# Altium footprint library AuxPDU.PcbLib: 21 footprints (part 1 of 2)
Each footprint in its own frame and in the unit in brackets; x right, y up, seen from the top. Pads: shape width x height; smd on the part's side, far side on the other; paste and mask are expansions set on the pad; w line width, h text height; cw(c..) or ccw(c..) is an arc to the next point about the centre after c.
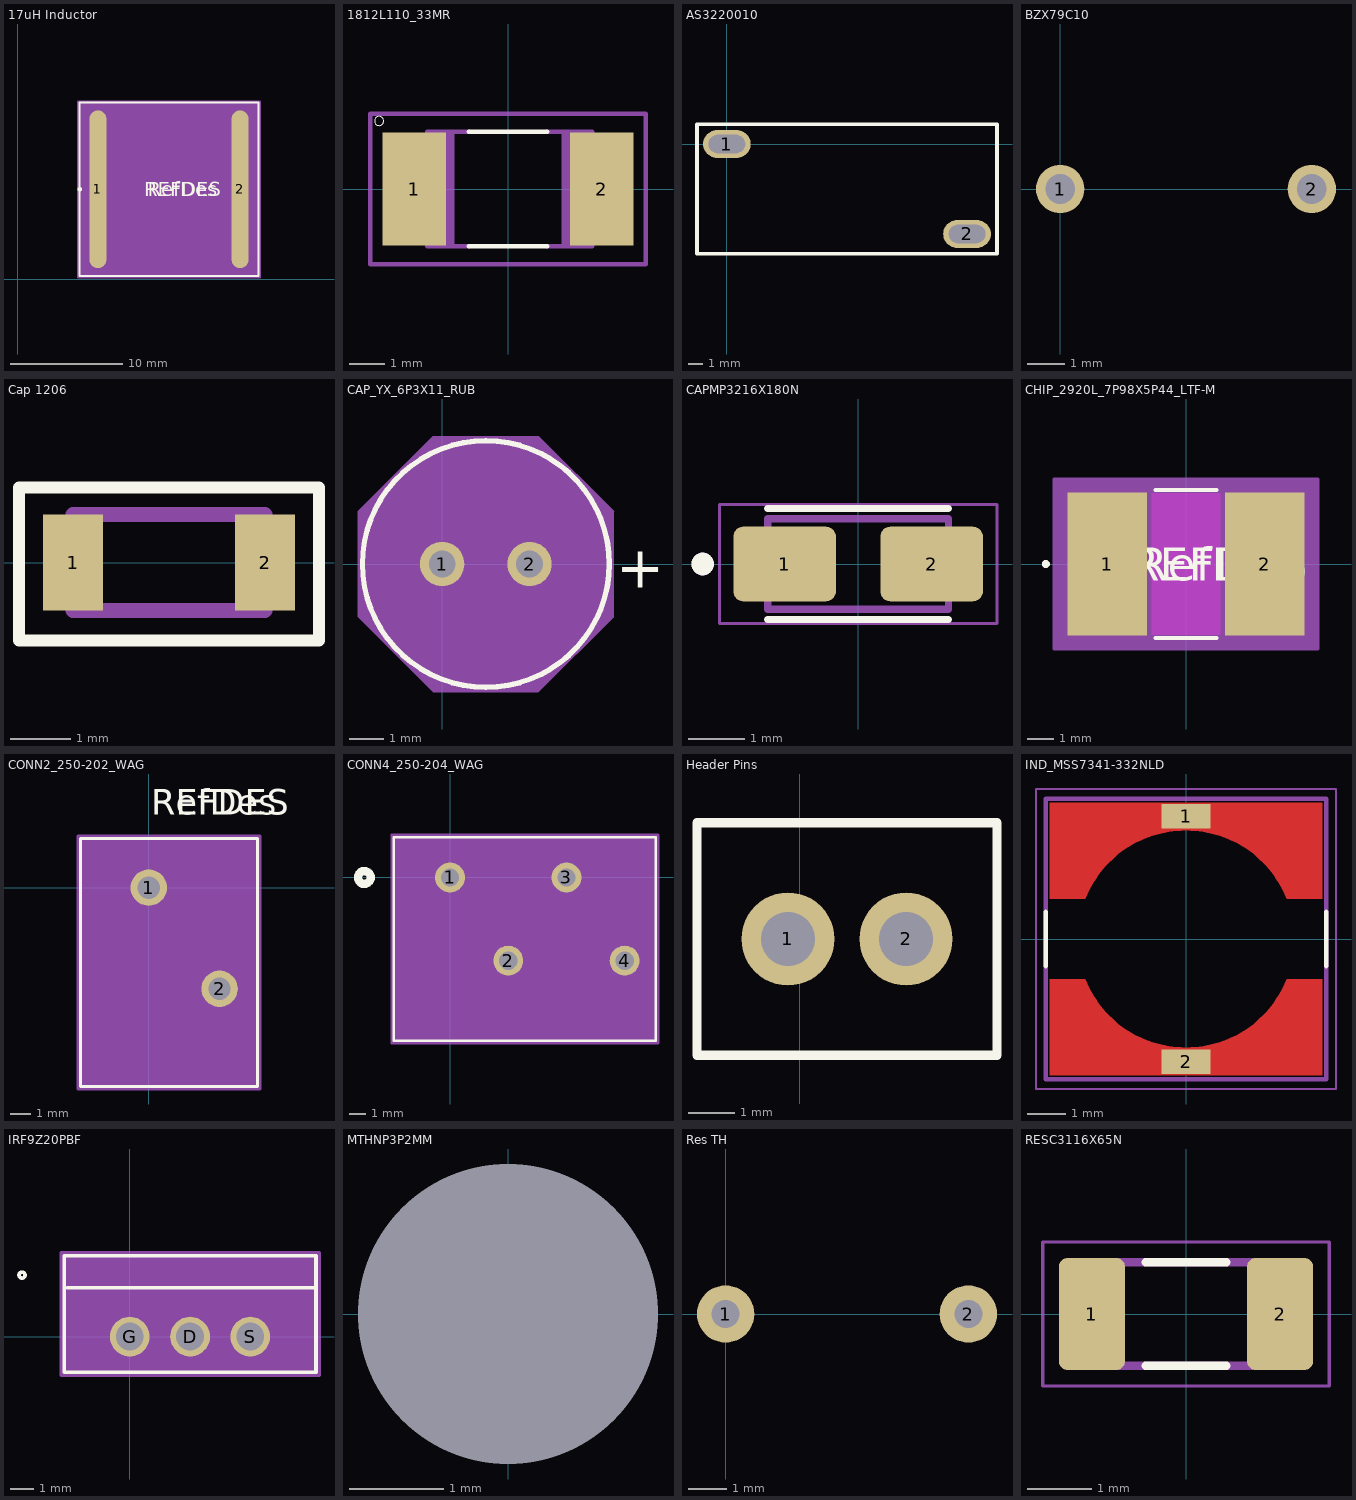
[diagram p0: the footprints below, top view; thin cyan lines are the x and y axes]

## 17uH Inductor [mil]
pads (2):
  oval 60x555 smd paste+0 mask+0: 1(282.14,315.71) 2(782.14,315.71)
Top Overlay:
  circle w6: c218.14,315.71 r5
  lines w6: 217.14,10.71 217.14,620.71 847.14,620.71 847.14,10.71 217.14,10.71
  text "REFDES" at 444.64,290.71 h50
  text "RefDes" at 457.14,290.71 h50
Top 3D Body:
  circle w0: c312.14,315.71 r3
  lines w0: 520.14,615.71 ccw(c532.14,615.71) 544.14,615.71
  lines w1: 222.14,15.71 222.14,615.71 842.14,615.71 842.14,15.71 222.14,15.71
  text "RefDes2" at 444.64,290.71 h50
Top Courtyard:
  region: 212.14,28.21 212.14,603.21 212.14,625.71 852.14,625.71 852.14,603.21 852.14,28.21 852.14,5.71 212.14,5.71
  lines w6: 212.14,5.71 852.14,5.71 852.14,28.21 852.14,603.21 852.14,625.71 212.14,625.71 212.14,603.21 212.14,28.21 212.14,5.71
3D body "IND_LCI-44_PUL.step": height 380.12, standoff 0, extent 34.62,15.71 1029.66,615.71

## 1812L110_33MR [mm] "PTC Reset Fuse"
pads (2):
  rect 1.78x3.15 smd: 1(-2.615,0) 2(2.615,0)
Top Overlay:
  circle w0: c-3.6,1.9 r0.127
  lines w0.127: -1.1,-1.6 1.1,-1.6 ; -1.1,1.6 1.1,1.6
Top 3D Body:
  region: -1.5,-1.6 -2.25,-1.6 -2.25,-0.5 -2.224,-0.499 -2.198,-0.497 -2.172,-0.494 -2.146,-0.489 -2.121,-0.483 -2.095,-0.476 -2.071,-0.467 -2.047,-0.457 -2.023,-0.446 -2,-0.433 -1.978,-0.419 -1.956,-0.405 -1.935,-0.389 -1.915,-0.372 -1.896,-0.354 -1.878,-0.335 -1.861,-0.315 -1.845,-0.294 -1.831,-0.272 -1.817,-0.25 -1.804,-0.227 -1.793,-0.203 -1.783,-0.179 -1.774,-0.155 -1.767,-0.129 -1.761,-0.104 -1.756,-0.078 -1.753,-0.052 -1.751,-0.026 -1.75,0 -1.751,0.026 -1.753,0.052 -1.756,0.078 -1.761,0.104 -1.767,0.129 -1.774,0.155 -1.783,0.179 -1.793,0.203 -1.804,0.227 -1.817,0.25 -1.831,0.272 -1.845,0.294 -1.861,0.315 -1.878,0.335 -1.896,0.354 -1.915,0.372 -1.935,0.389 -1.956,0.405 -1.978,0.419 -2,0.433 -2.023,0.446 -2.047,0.457 -2.071,0.467 -2.095,0.476 -2.121,0.483 -2.146,0.489 -2.172,0.494 -2.198,0.497 -2.224,0.499 -2.25,0.5 -2.25,1.6 -1.5,1.6
  region: 2.35,0.5 2.324,0.499 2.298,0.497 2.272,0.494 2.246,0.489 2.221,0.483 2.195,0.476 2.171,0.467 2.147,0.457 2.123,0.446 2.1,0.433 2.078,0.419 2.056,0.405 2.035,0.389 2.015,0.372 1.996,0.354 1.978,0.335 1.961,0.315 1.945,0.294 1.931,0.272 1.917,0.25 1.904,0.227 1.893,0.203 1.883,0.179 1.874,0.155 1.867,0.129 1.861,0.104 1.856,0.078 1.853,0.052 1.851,0.026 1.85,0 1.851,-0.026 1.853,-0.052 1.856,-0.078 1.861,-0.104 1.867,-0.129 1.874,-0.155 1.883,-0.179 1.893,-0.203 1.904,-0.227 1.917,-0.25 1.931,-0.272 1.945,-0.294 1.961,-0.315 1.978,-0.335 1.996,-0.354 2.015,-0.372 2.035,-0.389 2.056,-0.405 2.078,-0.419 2.1,-0.433 2.123,-0.446 2.147,-0.457 2.171,-0.467 2.195,-0.476 2.221,-0.483 2.246,-0.489 2.272,-0.494 2.298,-0.497 2.324,-0.499 2.35,-0.5 2.35,-1.6 1.5,-1.6 1.5,1.6 2.35,1.6
  lines w0.127: -1.1,-1.6 -2.25,-1.6 -2.25,-0.5 ccw(c-2.25,0) -2.25,0.5 -2.25,1.6 -1.1,1.6 ; 1.1,-1.6 2.35,-1.6 2.35,-0.5 cw(c2.35,0) 2.35,0.5 2.35,1.6 1.1,1.6
Top Courtyard:
  lines w0.127: -3.85,-2.1 3.85,-2.1 3.85,2.1 -3.85,2.1 -3.85,-2.1

## AS3220010 [mm] "Inrush Current Limiter 20 Ohms ±25% 10 A 1.142\" (29.00mm)"
pads (2):
  oval 3.4x2 hole 1.3 slot 2.6 at 0 deg: 1(0,0) 2(17.1,-6.4)
Top Overlay:
  lines w0.254: -2.125,-7.8 -2.125,1.4 19.232,1.4 19.232,-7.8 -2.1,-7.8

## BZX79C10 [mm] "2 Hole, Lead Diameter 0.46-0.533 mm"
pads (2):
  round 1.3 hole 0.8: 1(0,0) 2(6.75,0)

## Cap 1206 [mm] "Generic SMD capacitor with 1206 package (3216 metric)"
pads (2):
  rect 1x1.6 smd: 1(2.007,0) 2(5.207,0)
Top Overlay:
  lines w0.2: 1.107,-1.3 2.357,-1.3 4.857,-1.3 6.107,-1.3 6.107,1.25 2.357,1.25 1.107,1.25 1.107,-1.3
Mechanical 1:
  lines w0.254: 2.007,-0.8 5.207,-0.8 5.207,0.8 2.007,0.8 2.007,-0.8

## CAP_YX_6P3X11_RUB [mil]
pads (2):
  round 50 / inner round 60 / far side round 50 hole 30 paste-99999 mask+0: 1(0,0) 2(98.43,0)
Top Overlay:
  circle w6: c49.21,0 r139
  text "+" at 195.87,-27 h47.24
Top 3D Body:
  circle w0: c49.21,0 r134
Top Courtyard:
  region: -94.79,59.29 -10.08,144 108.51,144 193.21,59.29 193.21,-59.29 108.51,-144 -10.08,-144 -94.79,-59.29
  lines w1: -94.79,-59.29 -10.08,-144 108.51,-144 193.21,-59.29 193.21,59.29 108.51,144 -10.08,144 -94.79,59.29 -94.79,-59.29
3D body "CAP_YX_6P3X11_RUB.step": height 492.6, standoff -160, extent -84.8,-133.88 184.32,133.88

## CAPMP3216X180N [mm]
height 1.8
pads (2):
  rrect25% 1.81x1.32 smd: 1(-1.3,0) 2(1.3,0)
Top Overlay:
  circle w0.2: c-2.75,0 r0.1
  lines w0.127: -1.6,-0.98 1.6,-0.98 ; -1.6,0.98 1.6,0.98
Top 3D Body:
  circle w0.2: c-2.75,0 r0.1
  lines w0.127: -1.6,-0.8 -1.6,0.8 1.6,0.8 1.6,-0.8 -1.6,-0.8
Top Courtyard:
  lines w0.05: -2.455,-1.05 2.455,-1.05 2.455,1.05 -2.455,1.05 -2.455,-1.05
3D body "step_temp.STEP": height 1.8, standoff 0, extent -1.6,-0.8 1.6,0.8

## CHIP_2920L_7P98X5P44_LTF-M [mil]
pads (2):
  rect 120x216 smd paste+0 mask+0: 1(-119,0) 2(119,0)
Top Layer keep-out:
  region: -52.17,-105 -52.17,105 52.17,105 52.17,-105
Top Overlay:
  circle w6: c-212,0 r3
  lines w6: -46.53,-112 46.53,-112 ; -46.53,112 46.53,112
  text "RefDes" at -75,-25 h50
  text "REFDES" at -87.5,-25 h50
Keep-Out Layer:
  region: -52.17,-107 -52.17,107 52.17,107 52.17,-107
Top 3D Body:
  circle w0: c-114,0 r3
  lines w1: -157,-107 -157,107 ; -157,-107 -59,-107 -59,107 -157,107 ; -157,-107 157,-107 ; -157,-107 -157,107 ; -157,107 157,107 ; 157,-107 59,-107 59,107 157,107 ; 157,-107 157,107 ; 157,-107 157,107
  text "RefDes2" at -87.5,-25 h50
Top Courtyard:
  region: 199,-128 -199,-128 -199,128 199,128
  lines w6: -199,-128 -199,128 199,128 199,-128 -199,-128
3D body "CHIP_2920L_7P98X5P44_LTF.step": height 49.02, standoff 0, extent -157.01,-107.01 157.01,107.01

## CONN2_250-202_WAG [mm]
pads (2):
  round 1.8 / inner round 1.524 / far side round 1.8 hole 1.1 paste-2539.97 mask+0: 1(0,0) 2(3.5,-5)
Top Overlay:
  lines w0.152: -3.377,-9.827 -3.377,2.427 5.377,2.427 5.377,-9.827 -3.377,-9.827
  text "RefDes" at 0.127,3.607 h1.27
  text "REFDES" at 0.127,3.607 h1.27
Top 3D Body:
  circle w0.508: c0,1.905 r0.381
  lines w0.025: -3.25,-9.7 -3.25,2.3 5.25,2.3 5.25,-9.7 -3.25,-9.7
Top Courtyard:
  region: 5.504,2.554 -3.504,2.554 -3.504,-9.954 5.504,-9.954
  lines w0.152: -3.504,-9.954 5.504,-9.954 5.504,2.554 -3.504,2.554 -3.504,-9.954
3D body "250-202.stp": height 12.81, standoff -3.89, extent -3.259,-9.689 5.241,2.311

## CONN4_250-204_WAG [mm]
pads (4):
  round 1.8 hole 1.1 paste-2539.97 mask+0: 1(0,0) 2(3.5,-5) 3(7,0) 4(10.5,-5)
Top Overlay:
  circle w0.508: c-5.155,0 r0.381
  lines w0.152: -3.377,-9.827 -3.377,2.427 12.377,2.427 12.377,-9.827 -3.377,-9.827
  text ".Designator" at 1.008,-3.135 h1.27
Bottom Overlay:
  circle w0.508: c-5.155,0 r0.381
Top 3D Body:
  circle w0.508: c0,1.905 r0.381
  lines w0.025: -3.25,-9.7 -3.25,2.3 12.25,2.3 12.25,-9.7 -3.25,-9.7
  text ".Designator" at 1.008,-3.135 h1.27
Top Courtyard:
  region: 12.504,2.554 -3.504,2.554 -3.504,-9.954 12.504,-9.954
  lines w0.152: -3.504,-9.954 12.504,-9.954 12.504,2.554 -3.504,2.554 -3.504,-9.954
3D body "250-204.stp": height 12.81, standoff -3.89, extent -3.257,-9.678 12.243,2.322

## Header Pins [mm]
pads (2):
  round 2 hole 1.16: 1(-0.254,3.81) 2(2.286,3.81)
Top Overlay:
  lines w0.2: -2.209,1.31 4.241,1.31 4.241,3.81 4.241,6.31 -2.209,6.31 -2.209,1.31

## IND_MSS7341-332NLD [mm]
height 4.1
pads (2):
  rect 1.27x0.635 smd paste-2 mask+0: 1(0,3.2) 2(0,-3.2)
Top Layer:
  region: 3.55,-3.55 -3.55,-3.55 -3.55,-1.05 -2.62,-1.05 -2.57,-1.169 -2.522,-1.269 -2.47,-1.368 -2.415,-1.464 -2.356,-1.558 -2.293,-1.65 -2.226,-1.739 -2.156,-1.826 -2.083,-1.909 -2.006,-1.99 -1.926,-2.067 -1.844,-2.142 -1.758,-2.213 -1.67,-2.28 -1.579,-2.344 -1.485,-2.405 -1.39,-2.461 -1.292,-2.514 -1.192,-2.563 -1.09,-2.608 -0.987,-2.649 -0.882,-2.685 -0.775,-2.718 -0.668,-2.746 -0.559,-2.77 -0.45,-2.79 -0.339,-2.805 -0.229,-2.816 -0.118,-2.823 0,-2.825 0.118,-2.823 0.229,-2.816 0.339,-2.805 0.45,-2.79 0.559,-2.77 0.668,-2.746 0.775,-2.718 0.882,-2.685 0.987,-2.649 1.09,-2.608 1.192,-2.563 1.292,-2.514 1.39,-2.461 1.485,-2.405 1.579,-2.344 1.67,-2.28 1.758,-2.213 1.844,-2.142 1.926,-2.067 2.006,-1.99 2.083,-1.909 2.156,-1.826 2.226,-1.739 2.293,-1.65 2.356,-1.558 2.415,-1.464 2.47,-1.368 2.522,-1.269 2.57,-1.169 2.62,-1.05 3.55,-1.05
  region: 3.55,1.05 2.62,1.05 2.57,1.169 2.522,1.269 2.47,1.368 2.415,1.464 2.356,1.558 2.293,1.65 2.226,1.739 2.156,1.826 2.083,1.909 2.006,1.99 1.926,2.067 1.844,2.142 1.758,2.213 1.67,2.28 1.579,2.344 1.485,2.405 1.39,2.461 1.292,2.514 1.192,2.563 1.09,2.608 0.987,2.649 0.882,2.685 0.775,2.718 0.668,2.746 0.559,2.77 0.45,2.79 0.339,2.805 0.229,2.816 0.118,2.823 0,2.825 -0.118,2.823 -0.229,2.816 -0.339,2.805 -0.45,2.79 -0.559,2.77 -0.668,2.746 -0.775,2.718 -0.882,2.685 -0.987,2.649 -1.09,2.608 -1.192,2.563 -1.292,2.514 -1.39,2.461 -1.485,2.405 -1.579,2.344 -1.67,2.28 -1.758,2.213 -1.844,2.142 -1.926,2.067 -2.006,1.99 -2.083,1.909 -2.156,1.826 -2.226,1.739 -2.293,1.65 -2.356,1.558 -2.415,1.464 -2.47,1.368 -2.522,1.269 -2.57,1.169 -2.62,1.05 -3.55,1.05 -3.55,3.55 3.55,3.55
Top Overlay:
  lines w0.127: -3.65,-0.7 -3.65,0.7 ; 3.65,-0.7 3.65,0.7
Top Paste:
  region: 3.55,-3.55 -3.55,-3.55 -3.55,-1.05 -2.62,-1.05 -2.57,-1.169 -2.522,-1.269 -2.47,-1.368 -2.415,-1.464 -2.356,-1.558 -2.293,-1.65 -2.226,-1.739 -2.156,-1.826 -2.083,-1.909 -2.006,-1.99 -1.926,-2.067 -1.844,-2.142 -1.758,-2.213 -1.67,-2.28 -1.579,-2.344 -1.485,-2.405 -1.39,-2.461 -1.292,-2.514 -1.192,-2.563 -1.09,-2.608 -0.987,-2.649 -0.882,-2.685 -0.775,-2.718 -0.668,-2.746 -0.559,-2.77 -0.45,-2.79 -0.339,-2.805 -0.229,-2.816 -0.118,-2.823 0,-2.825 0.118,-2.823 0.229,-2.816 0.339,-2.805 0.45,-2.79 0.559,-2.77 0.668,-2.746 0.775,-2.718 0.882,-2.685 0.987,-2.649 1.09,-2.608 1.192,-2.563 1.292,-2.514 1.39,-2.461 1.485,-2.405 1.579,-2.344 1.67,-2.28 1.758,-2.213 1.844,-2.142 1.926,-2.067 2.006,-1.99 2.083,-1.909 2.156,-1.826 2.226,-1.739 2.293,-1.65 2.356,-1.558 2.415,-1.464 2.47,-1.368 2.522,-1.269 2.57,-1.169 2.62,-1.05 3.55,-1.05
  region: 3.55,1.05 2.62,1.05 2.57,1.169 2.522,1.269 2.47,1.368 2.415,1.464 2.356,1.558 2.293,1.65 2.226,1.739 2.156,1.826 2.083,1.909 2.006,1.99 1.926,2.067 1.844,2.142 1.758,2.213 1.67,2.28 1.579,2.344 1.485,2.405 1.39,2.461 1.292,2.514 1.192,2.563 1.09,2.608 0.987,2.649 0.882,2.685 0.775,2.718 0.668,2.746 0.559,2.77 0.45,2.79 0.339,2.805 0.229,2.816 0.118,2.823 0,2.825 -0.118,2.823 -0.229,2.816 -0.339,2.805 -0.45,2.79 -0.559,2.77 -0.668,2.746 -0.775,2.718 -0.882,2.685 -0.987,2.649 -1.09,2.608 -1.192,2.563 -1.292,2.514 -1.39,2.461 -1.485,2.405 -1.579,2.344 -1.67,2.28 -1.758,2.213 -1.844,2.142 -1.926,2.067 -2.006,1.99 -2.083,1.909 -2.156,1.826 -2.226,1.739 -2.293,1.65 -2.356,1.558 -2.415,1.464 -2.47,1.368 -2.522,1.269 -2.57,1.169 -2.62,1.05 -3.55,1.05 -3.55,3.55 3.55,3.55
Top Solder:
  region: 3.65,-3.65 -3.65,-3.65 -3.65,-0.95 -2.52,-0.95 -2.472,-1.069 -2.427,-1.167 -2.379,-1.264 -2.326,-1.359 -2.27,-1.452 -2.211,-1.542 -2.147,-1.63 -2.081,-1.715 -2.011,-1.798 -1.937,-1.878 -1.861,-1.955 -1.782,-2.028 -1.7,-2.099 -1.615,-2.166 -1.527,-2.23 -1.437,-2.29 -1.345,-2.347 -1.251,-2.4 -1.154,-2.45 -1.056,-2.495 -0.956,-2.537 -0.854,-2.574 -0.751,-2.608 -0.647,-2.637 -0.541,-2.662 -0.435,-2.683 -0.328,-2.7 -0.221,-2.713 -0.113,-2.721 0,-2.725 0.113,-2.721 0.221,-2.713 0.328,-2.7 0.435,-2.683 0.541,-2.662 0.647,-2.637 0.751,-2.608 0.854,-2.574 0.956,-2.537 1.056,-2.495 1.154,-2.45 1.251,-2.4 1.345,-2.347 1.437,-2.29 1.527,-2.23 1.615,-2.166 1.7,-2.099 1.782,-2.028 1.861,-1.955 1.937,-1.878 2.011,-1.798 2.081,-1.715 2.147,-1.63 2.211,-1.542 2.27,-1.452 2.326,-1.359 2.379,-1.264 2.427,-1.167 2.472,-1.069 2.52,-0.95 3.65,-0.95
  region: 3.65,0.95 2.52,0.95 2.472,1.069 2.427,1.167 2.379,1.264 2.326,1.359 2.27,1.452 2.211,1.542 2.147,1.63 2.081,1.715 2.011,1.798 1.937,1.878 1.861,1.955 1.782,2.028 1.7,2.099 1.615,2.166 1.527,2.23 1.437,2.29 1.345,2.347 1.251,2.4 1.154,2.45 1.056,2.495 0.956,2.537 0.854,2.574 0.751,2.608 0.647,2.637 0.541,2.662 0.435,2.683 0.328,2.7 0.221,2.713 0.113,2.721 0,2.725 -0.113,2.721 -0.221,2.713 -0.328,2.7 -0.435,2.683 -0.541,2.662 -0.647,2.637 -0.751,2.608 -0.854,2.574 -0.956,2.537 -1.056,2.495 -1.154,2.45 -1.251,2.4 -1.345,2.347 -1.437,2.29 -1.527,2.23 -1.615,2.166 -1.7,2.099 -1.782,2.028 -1.861,1.955 -1.937,1.878 -2.011,1.798 -2.081,1.715 -2.147,1.63 -2.211,1.542 -2.27,1.452 -2.326,1.359 -2.379,1.264 -2.427,1.167 -2.472,1.069 -2.52,0.95 -3.65,0.95 -3.65,3.65 3.65,3.65
Top 3D Body:
  lines w0.127: -3.65,-3.65 3.65,-3.65 3.65,3.65 -3.65,3.65 -3.65,-3.65
Top Courtyard:
  lines w0.05: -3.905,-3.905 3.905,-3.905 3.905,3.905 -3.905,3.905 -3.905,-3.905
3D body "step_temp.STEP": height 4.1, standoff 0, extent -3.649,-3.649 3.649,3.65

## IRF9Z20PBF [mil] "TO-220AB_HIGHVOLTAGE_VIS"
pads (3):
  round 66 hole 46 paste-99999 mask+0: D(100,0) G(0,0) S(200,0)
Top Overlay:
  circle w6: c-179,101.99 r5
  lines w6: -104,81 304,81 ; -109,-59 -109,134 309,134 309,-59 -109,-59
  text ".Designator" at -105,160 h50
Top 3D Body:
  circle w1: c-94,101.99 r5
  lines w1: -104,76 304,76 ; -104,-54 -104,129 304,129 304,-54 -104,-54
  text ".Designator" at -105,160 h50
  text "TAB" at 81.25,90 h25
Top Courtyard:
  region: 314,139 -114,139 -114,-64 314,-64
  lines w6: -114,-64 314,-64 314,139 -114,139 -114,-64
3D body "TO-220AB_HIGHVOLTAGE_VIS.step": height 640, standoff -244.02, extent -104.02,-54.02 304.02,129.02

## MTHNP3P2MM [mm] "Mounting Hole Non Plated 3.2 mm hole"
pads (1):
  round 1 hole 3.2 unplated: ""(0,0)

## Res TH [mil] "generic resistor throughhole"
pads (2):
  round 59 hole 29: 1(0,0) 2(250,0)

## RESC3116X65N [mm]
height 0.65
pads (2):
  rrect25% 1.02x1.73 smd: 1(-1.455,0) 2(1.455,0)
Top Overlay:
  lines w0.127: -0.625,-0.8 0.625,-0.8 ; -0.625,0.8 0.625,0.8
Top 3D Body:
  lines w0.127: -1.55,-0.8 1.55,-0.8 1.55,0.8 -1.55,0.8 -1.55,-0.8
Top Courtyard:
  lines w0.05: -2.215,-1.115 2.215,-1.115 2.215,1.115 -2.215,1.115 -2.215,-1.115